# Altium schematic symbol library ADA4084-2ARZ.SchLib: 2 symbols
Pins are listed as number, name and electrical type; pins without a type are passive.

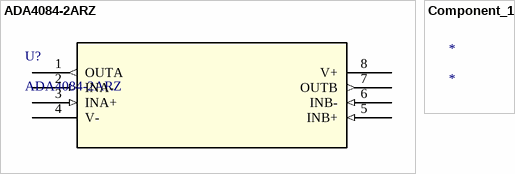
[diagram p0: symbols ADA4084-2ARZ to Component_1]

## ADA4084-2ARZ
designator U?
No Description Available; Mfr_Name: Analog Devices Inc; Copyright: Copyright (C) 2021 Ultra Librarian. All rights reserved.; Manufacturer_Part_Number: ADA4084-2ARZ; RefDes: RefDes; Type: DEV
footprint R_8_ADI
pins: 1 OUTA (out), 2 INA- (in), 3 INA+ (in), 4 V- (power), 5 INB+ (in), 6 INB- (in), 7 OUTB (out), 8 V+ (power)

## Component_1
designator *